# Altium schematic symbol library optoisolator.SchLib: 6 symbols
Pins are listed as number, name and electrical type; pins without a type are passive.

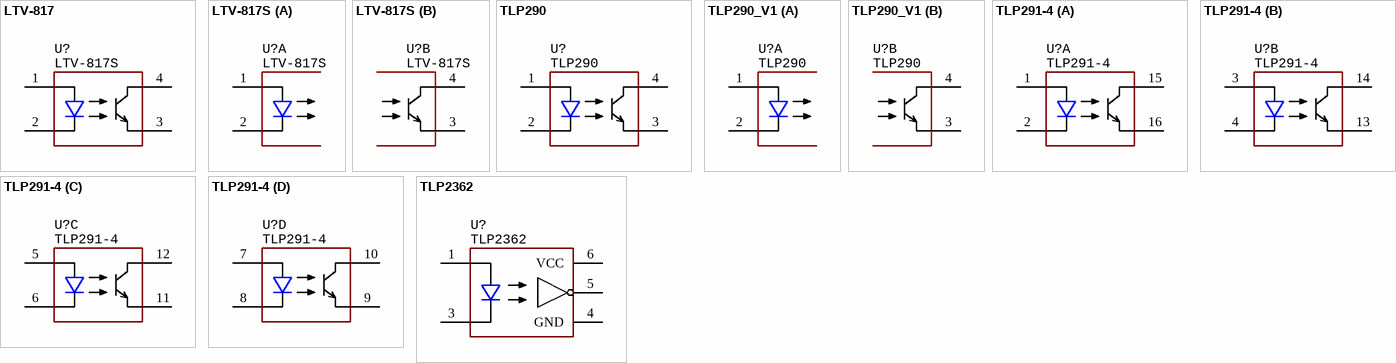
[diagram p0: symbols LTV-817 to TLP2362]

## LTV-817
designator U?  PartNumber: LTV-817S
Optoisolator; Manufacturer: Lite-On; ValueManufacturerPartNumber: IC optoisolator, 4µs/3µs, 5000Vrms, 35V, -40...+125°C, 4-SMD; Supply: 35V; DataRate: 4µs/3µs; Isolation: 5000Vrms; HelpURL: https://www.digikey.com/product-detail/en/lite-on-inc/LTV-817S/160-1367-5-ND/385837; Package: 4-SMD; ComponentType: IC optoisolator; Temperature: -40...+125°C
footprint 4-SMD (SOIC, 4-Leads, Body 4,60x6,50mm, Pitch 1,27mm, IPC Medium Density)
pins: 1 A, 2 C, 3 E, 4 C

## LTV-817S
designator U?  PartNumber: LTV-817S
Optoisolator; Manufacturer: Lite-On; ValueManufacturerPartNumber: IC optoisolator, 4µs/3µs, 5000Vrms, 35V, -40...+125°C, 4-SMD; Supply: 35V; DataRate: 4µs/3µs; Isolation: 5000Vrms; HelpURL: https://www.digikey.com/product-detail/en/lite-on-inc/LTV-817S/160-1367-5-ND/385837; Package: 4-SMD; ComponentType: IC optoisolator; Temperature: -40...+125°C
footprint 4-SMD (SOIC, 4-Leads, Body 4,60x6,50mm, Pitch 1,27mm, IPC Medium Density)
part A pins: 1 A, 2 C
part B pins: 3 E, 4 C

## TLP290
designator U?  PartNumber: TLP290
Optoisolator; Manufacturer: Toshiba; ValueManufacturerPartNumber: IC optoisolator, 2µs/3µs, 3750Vrms, 80V, -40...+125°C, 4-SMD; Supply: 80V; DataRate: 2µs/3µs; Isolation: 3750Vrms; HelpURL: https://www.digikey.com/en/products/detail/toshiba-semiconductor-and-storage/TLP290-BL-TP-SE/4562865; Package: 4-SMD; ComponentType: IC optoisolator; Temperature: -40...+125°C
footprint OPTO: TLP290
pins: 1 A, 2 C, 3 E, 4 C

## TLP290_V1
designator U?  PartNumber: TLP290
Optoisolator; Manufacturer: Toshiba; ValueManufacturerPartNumber: IC optoisolator, 2µs/3µs, 3750Vrms, 80V, -40...+125°C, 4-SMD; Supply: 80V; DataRate: 2µs/3µs; Isolation: 3750Vrms; HelpURL: https://www.digikey.com/en/products/detail/toshiba-semiconductor-and-storage/TLP290-BL-TP-SE/4562865; Package: 4-SMD; ComponentType: IC optoisolator; Temperature: -40...+125°C
footprint OPTO: TLP290
part A pins: 1 A, 2 C
part B pins: 3 E, 4 C

## TLP291-4
designator U?  PartNumber: TLP291-4
Optoisolator; Manufacturer: Lite-On; ValueManufacturerPartNumber: IC optoisolator, 4µs/3µs, 5000Vrms, 35V, -40...+125°C, 16-SO; Supply: 35V; DataRate: 4µs/3µs; Isolation: 5000Vrms; HelpURL: https://toshiba.semicon-storage.com/info/docget.jsp?did=12858&prodName=TLP291-4; Package: 16-SO; ComponentType: IC optoisolator; Temperature: -40...+125°C
footprint 16-SO (pitch 1.27 mm)
part A pins: 1 A, 2 C, 15 C, 16 E
part B pins: 3 A, 4 C, 13 E, 14 C
part C pins: 5 A, 6 C, 11 E, 12 C
part D pins: 7 A, 8 C, 9 E, 10 C

## TLP2362
designator U?  PartNumber: TLP2362
Optoisolator; Manufacturer: Toshiba; ValueManufacturerPartNumber: IC digital isolator, 10Mbps, 3750Vrms, 2.7...5.5V, -40...+125°C, 6-SOIC; Supply: 2.7...5.5V; DataRate: 10Mbps; Isolation: 3750Vrms; HelpURL: https://www.digikey.com/product-detail/en/toshiba-semiconductor-and-storage/TLP2362-E/TLP2362E-ND/3056608; Package: 6-SOIC; ComponentType: IC digital isolator; Temperature: -40...+125°C
footprint OPTO: TLP2362
pins: 1 A, 3 C, 4 GND, 5 VOUT, 6 VCC